# EAGLE library part SN3257QPWRQ1 (library SN3257QPWRQ1)
PRECISION ANALOG MULTIPLEXER Source: Datasheet <https://www.ti.com/lit/gpn/SN3257-Q1>
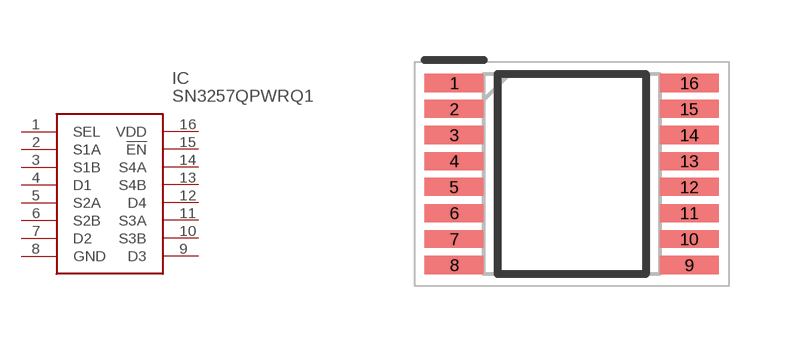
[diagram p0: symbol with the pads of SOP65P640X120-16N; footprint SOP65P640X120-16N]

Designator prefix IC

## SN3257QPWRQ1 (Description: PRECISION ANALOG MULTIPLEXER; Height: 1.2mm; Manufacturer_Name: Texas Instruments; Manufacturer_Part_Number: SN3257QPWRQ1)  [SOP65P640X120-16N]
1  SEL
2  S1A
3  S1B
4  D1
5  S2A
6  S2B
7  D2
8  GND
9  D3
10  S3B
11  S3A
12  D4
13  S4B
14  S4A
15  !EN
16  VDD

## Footprint SOP65P640X120-16N (pad centres in mm)
ADC128S052CIMTX/NOPB-1
smd 1.475 x 0.45: 1 -2.938,2.275; 2 -2.938,1.625; 3 -2.938,0.975; 4 -2.938,0.325; 5 -2.938,-0.325; 6 -2.938,-0.975; 7 -2.938,-1.625; 8 -2.938,-2.275; 9 2.938,-2.275; 10 2.938,-1.625; 11 2.938,-0.975; 12 2.938,-0.325; 13 2.938,0.325; 14 2.938,0.975; 15 2.938,1.625; 16 2.938,2.275